# Altium schematic symbol library SN74LVC1G08.Schlib: 1 symbol
Pins are listed as number, name and electrical type; pins without a type are passive.

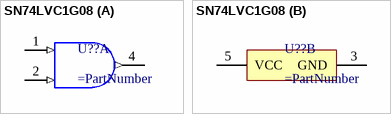
[diagram p0: symbol SN74LVC1G08]

## SN74LVC1G08
designator U??
part A pins: 1 1A (in), 2 1B (in), 4 1Y (out)
part B pins: 3 GND (power), 5 VCC (power)